# EAGLE library part DRV8332 (library ic-TI)
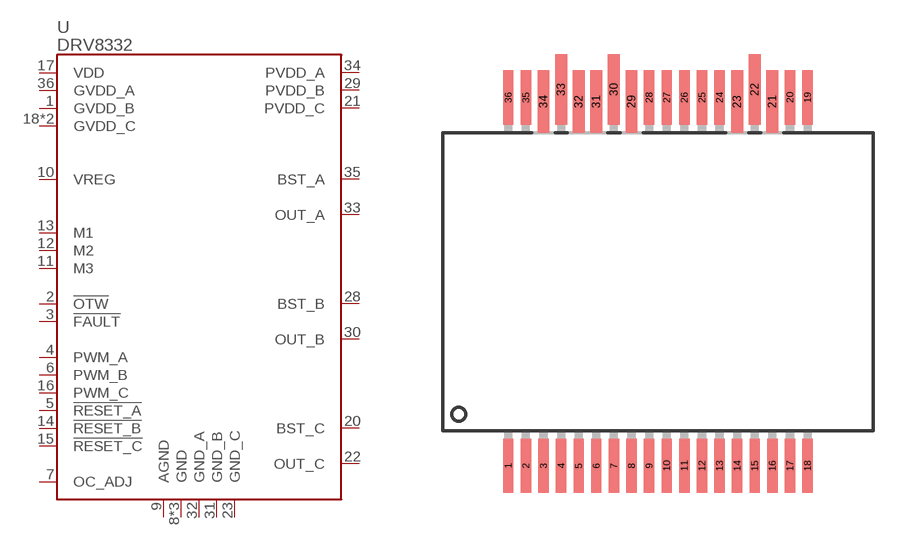
[diagram p33: symbol with the pads of HSSOP36; footprint HSSOP36]

Designator prefix U

## DRV8332  [HSSOP36]
1  GVDD_B
2  !OTW
3  !FAULT
4  PWM_A
5  !RESET_A
6  PWM_B
7  OC_ADJ
8  GND
9  AGND
10  VREG
11  M3
12  M2
13  M1
14  !RESET_B
15  !RESET_C
16  PWM_C
17  VDD
18  GVDD_C
19  GVDD_C
20  BST_C
21  PVDD_C
22  OUT_C
23  GND_C
24  GND
25  GND
28  BST_B
29  PVDD_B
30  OUT_B
31  GND_B
32  GND_A
33  OUT_A
34  PVDD_A
35  BST_A
36  GVDD_A

## Footprint HSSOP36 (pad centres in mm)
smd 0.381 x 2: 1 -5.525,-6.8; 2 -4.875,-6.8; 3 -4.225,-6.8; 4 -3.575,-6.8; 5 -2.925,-6.8; 6 -2.275,-6.8; 7 -1.625,-6.8; 8 -0.975,-6.8; 9 -0.325,-6.8; 10 0.325,-6.8; 11 0.975,-6.8; 12 1.625,-6.8; 13 2.275,-6.8; 14 2.925,-6.8; 15 3.575,-6.8; 16 4.225,-6.8; 17 4.875,-6.8; 18 5.525,-6.8; 19 5.525,6.8; 20 4.875,6.8; 24 2.275,6.8; 25 1.625,6.8; 26 0.975,6.8; 27 0.325,6.8; 28 -0.325,6.8; 35 -4.875,6.8; 36 -5.525,6.8
smd 0.44 x 2.3: 21 4.225,6.65; 23 2.925,6.65; 29 -0.975,6.65; 31 -2.275,6.65; 32 -2.925,6.65; 34 -4.225,6.65
smd 0.44 x 2.6: 22 3.575,7.1; 30 -1.625,7.1; 33 -3.575,7.1